# EAGLE library part SSW-108-22-G-D-VS (library SSW-108-22-G-D-VS)
16 Position, Tiger Buy™ Socket Strip with PCB Tails, 0.100" Pitch, Surface Mount Vertical Source: Datasheet <http://suddendocs.samtec.com/prints/ssw-1xx-22-xxx-x-vs-xx-x-xx-mkt.pdf>
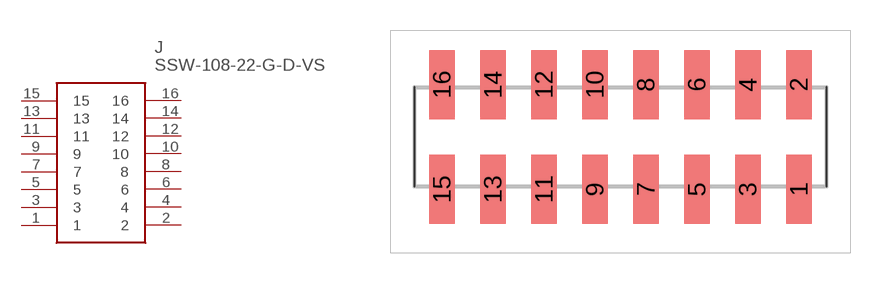
[diagram p0: symbol with the pads of SSW-108-22-XXX-D-VS; footprint SSW-108-22-XXX-D-VS]

Designator prefix J

## SSW-108-22-G-D-VS (DESCRIPTION: 16 Position, Tiger Buy&trade; Socket Strip with PCB Tails, 0.100&quot; Pitch, Surface Mount Vertical; HEIGHT: mm; MANUFACTURER_NAME: SAMTEC; MANUFACTURER_PART_NUMBER: SSW-108-22-G-D-VS)  [SSW-108-22-XXX-D-VS]
1  1
2  2
3  3
4  4
5  5
6  6
7  7
8  8
9  9
10  10
11  11
12  12
13  13
14  14
15  15
16  16

## Footprint SSW-108-22-XXX-D-VS (pad centres in mm)
SSW-108-22-XXX-D-VS
smd 1.27 x 3.43: 1 8.89,-2.605; 2 8.89,2.605; 3 6.35,-2.605; 4 6.35,2.605; 5 3.81,-2.605; 6 3.81,2.605; 7 1.27,-2.605; 8 1.27,2.605; 9 -1.27,-2.605; 10 -1.27,2.605; 11 -3.81,-2.605; 12 -3.81,2.605; 13 -6.35,-2.605; 14 -6.35,2.605; 15 -8.89,-2.605; 16 -8.89,2.605